# Altium footprint library 1-826470-0.PcbLib: 1 footprints
Each footprint in its own frame and in the unit in brackets; x right, y up, seen from the top. Pads: shape width x height; smd on the part's side, far side on the other; paste and mask are expansions set on the pad; w line width, h text height; cw(c..) or ccw(c..) is an arc to the next point about the centre after c.
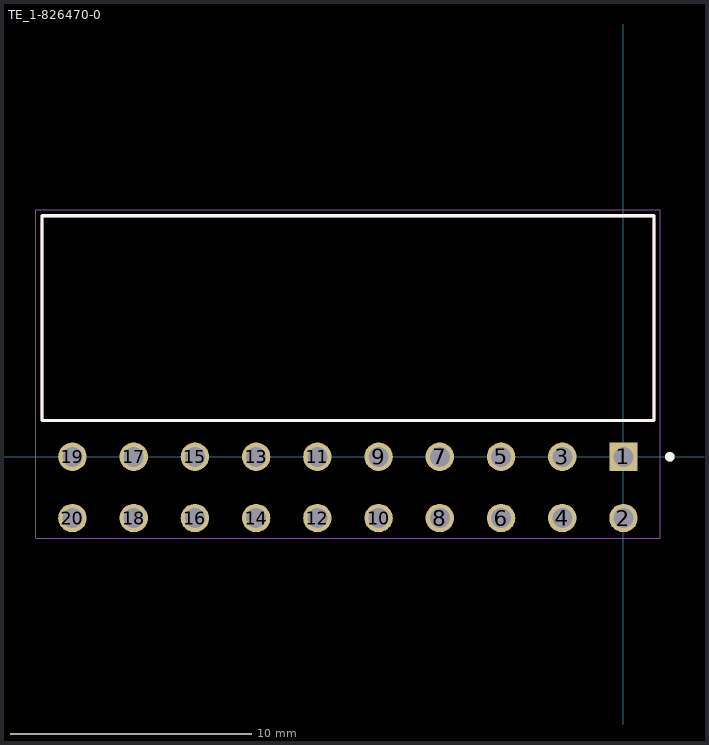
[diagram p0: the footprint, top view; thin cyan lines are the x and y axes]

## TE_1-826470-0 [mm]
pads (20):
  rect 1.18x1.18 hole 0.83: 1(0,0)
  round 1.18 hole 0.83: 2(0,-2.54) 3(-2.54,0) 4(-2.54,-2.54) 5(-5.08,0) 6(-5.08,-2.54) 7(-7.62,0) 8(-7.62,-2.54) 9(-10.16,0) 10(-10.16,-2.54) 11(-12.7,0) 12(-12.7,-2.54) 13(-15.24,0) 14(-15.24,-2.54) 15(-17.78,0) 16(-17.78,-2.54) 17(-20.32,0) 18(-20.32,-2.54) 19(-22.86,0) 20(-22.86,-2.54)
Top Overlay:
  circle w0.2: c1.92,0 r0.1
  lines w0.127: -24.13,1.5 1.27,1.5 1.27,10 -24.13,10 -24.13,1.5
Mechanical 13:
  circle w0.2: c1.92,0 r0.1
  lines w0.127: -24.13,1.5 -24.13,10 ; -24.13,1.5 1.27,1.5 ; -24.13,1.5 -24.13,10 ; -24.13,10 1.27,10 ; -24.13,10 1.27,10 ; 1.27,1.5 1.27,10 ; 1.27,1.5 1.27,10
Mechanical 15:
  lines w0.05: -24.38,-3.38 1.52,-3.38 1.52,10.25 -24.38,10.25 -24.38,-3.38
3D body "step_temp.STEP": height 6.84, standoff -4.96, extent -23.88,-2.925 1.02,11.43